# EAGLE library part RN2903A-I/RM098 (library RN2903A-I_RM098)
300kbps 18.5 dBm LoRa (Low Power Long Range) 915 MHz Transceiver Module
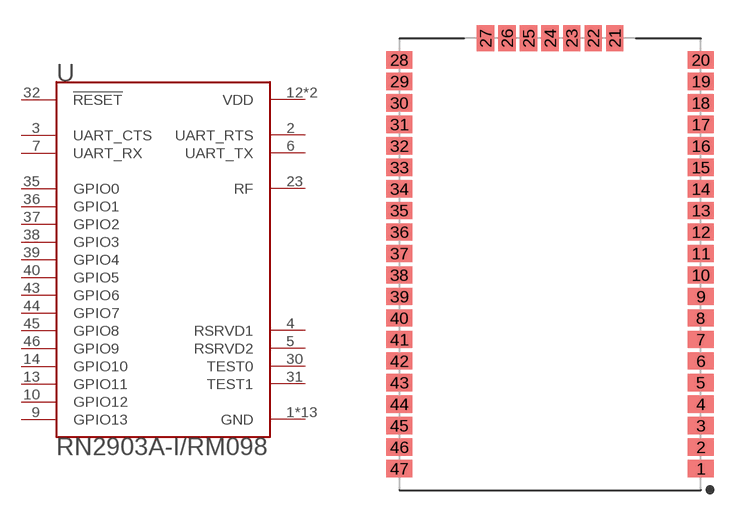
[diagram p0: symbol with the pads of XCVR_RN2903A-I/RM098; footprint XCVR_RN2903A-I/RM098]

Designator prefix U

## RN2903A-I/RM098 (Availability: Unavailable; Description: 300kbps 18.5 dBm LoRa _Low Power Long Range_ 915 MHz Transceiver Module; MF: Microchip; MP: RN2903A-I/RM098; Package: Module Microchip; Price: None)  [XCVR_RN2903A-I/RM098]
1  GND  pwr
2  UART_RTS  out
3  UART_CTS  in
4  RSRVD1  pas
5  RSRVD2  pas
6  UART_TX  out
7  UART_RX  in
8  GND  pwr
9  GPIO13
10  GPIO12
11  GND  pwr
12  VDD  pwr
13  GPIO11
14  GPIO10
20  GND  pwr
21  GND  pwr
22  GND  pwr
23  RF  pas
24  GND  pwr
26  GND  pwr
27  GND  pwr
28  GND  pwr
30  TEST0  pas
31  TEST1  pas
32  !RESET  in
33  GND  pwr
34  VDD  pwr
35  GPIO0
36  GPIO1
37  GPIO2
38  GPIO3
39  GPIO4
40  GPIO5
41  GND  pwr
43  GPIO6
44  GPIO7
45  GPIO8
46  GPIO9
47  GND  pwr

## Footprint XCVR_RN2903A-I/RM098 (pad centres in mm)
smd 1.524 x 1.016: 1 8.89,-12.065; 2 8.89,-10.795; 3 8.89,-9.525; 4 8.89,-8.255; 5 8.89,-6.985; 6 8.89,-5.715; 7 8.89,-4.445; 8 8.89,-3.175; 9 8.89,-1.905; 10 8.89,-0.635; 11 8.89,0.635; 12 8.89,1.905; 13 8.89,3.175; 14 8.89,4.445; 15 8.89,5.715; 16 8.89,6.985; 17 8.89,8.255; 18 8.89,9.525; 19 8.89,10.795; 20 8.89,12.065; 28 -8.89,12.065; 29 -8.89,10.795; 30 -8.89,9.525; 31 -8.89,8.255; 32 -8.89,6.985; 33 -8.89,5.715; 34 -8.89,4.445; 35 -8.89,3.175; 36 -8.89,1.905; 37 -8.89,0.635; 38 -8.89,-0.635; 39 -8.89,-1.905; 40 -8.89,-3.175; 41 -8.89,-4.445; 42 -8.89,-5.715; 43 -8.89,-6.985; 44 -8.89,-8.255; 45 -8.89,-9.525; 46 -8.89,-10.795; 47 -8.89,-12.065
smd 1.016 x 1.524: 21 3.81,13.335; 22 2.54,13.335; 23 1.27,13.335; 24 0,13.335; 25 -1.27,13.335; 26 -2.54,13.335; 27 -3.81,13.335